# Altium schematic symbol library Schlib1.SchLib: 5 symbols
Pins are listed as number, name and electrical type; pins without a type are passive.

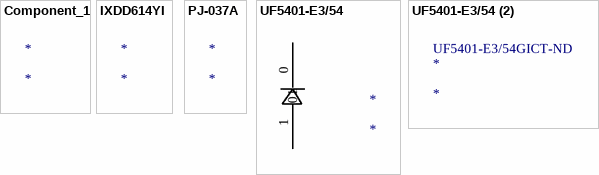
[diagram p0: symbols Component_1 to UF5401-E3/54 (2)]

## Component_1
designator *

## IXDD614YI
designator *
14-Ampere Low-Side Ultrafast MOSFET Driver 5-Lead TO-263; Manufacturer: Ixys Clare; Manufacturer Part Number: IXDD614YI; Number of Drivers: 1; Fall Time: 25ns; Turn-On Delay Time: 70ns; Min Supply Voltage: 4.5V; Rise Time: 35ns; Max Supply Voltage: 35V; Max Output Current: 14A; Interface: On/Off; Output Configuration: Low Side; Supplier 1: Digi-Key; RoHS: Yes; Category: Hot Swap Controllers; Stock 1: 3033; Pricing 1: 1=5.14000, 10=4.61700, 25=4.36440, 100=3.58860, 250=3.22008, 500=3.10368, 1000=2.57993, 2500=2.56200 (USD); Mount: Surface Mount; Case/Package: TO-263; Min Operating Temperature: -40°C; Max Operating Temperature: 125°C; Package Quantity: 50; Number of Outputs: 1; Packaging: Rail/Tube; Propagation Delay: 70ns; Radiation Hardening: No; ComponentLink1URL: https://datasheet.ciiva.com/15110/getdatasheetpartid-347285-15110194.pdf?src-supplier=Verical; ComponentLink1Description: https://datasheet.ciiva.com/15110/getdatasheetpartid-347285-15110194.pdf?src-supplier=Verical; ComponentLink2URL: https://datasheet.ciiva.com/26880/ixdd614yi-26880526.pdf?src-supplier=IIIC; ComponentLink2Description: https://datasheet.ciiva.com/26880/ixdd614yi-26880526.pdf?src-supplier=IIIC; Supplier Part Number 1: CLA338-ND

## PJ-037A
designator *
CONN PWR JACK 2X5.5MM SOLDER; Manufacturer: CUI; Manufacturer Part Number: PJ-037A; Number of Conductors: 2; Voltage Rating: 24V; Insulation Resistance: 100MR; Gender: Male; Shielding: Unshielded; Current Rating: 2.5A; Supplier 1: Digi-Key; RoHS: Yes; Category: Connectors; Stock 1: 7198; Pricing 1: 1=0.58000, 10=0.54300, 25=0.48880, 50=0.43440, 100=0.41630, 250=0.38012, 500=0.36200, 1000=0.29865, 2500=0.27150 (USD); Mount: Through Hole; Housing Material: Thermoplastic; Housing Color: Black; Contact Plating: Nickel; Color: Black; Contact Material: Copper; Min Operating Temperature: -25°C; Max Operating Temperature: 85°C; Termination: Through Hole; Connector Type: Jack; Contact Gender: Male; Orientation: Horizontal; Package Quantity: 500; Flammability Rating: UL94 V-0; Lead Free: Lead Free; ComponentLink1URL: http://www.mouser.com/ds/2/670/pj-037a-516020.pdf?src-supplier=Mouser; ComponentLink1Description: http://www.mouser.com/ds/2/670/pj-037a-516020.pdf?src-supplier=Mouser; ComponentLink2URL: https://www.cui.com/product/resource/digikeypdf/pj-037a.pdf?src-supplier=Digi-Key; ComponentLink2Description: https://www.cui.com/product/resource/digikeypdf/pj-037a.pdf?src-supplier=Digi-Key; ComponentLink3URL: http://www.cui.com/Product/Resource/FuturePDF/PJ-037A.pdf?src-supplier=Future+Electronics; ComponentLink3Description: http://www.cui.com/Product/Resource/FuturePDF/PJ-037A.pdf?src-supplier=Future+Electronics; Supplier Part Number 1: CP-037A-ND

## UF5401-E3/54
designator *
Rectifier Diode, Single, 100 V, 3 A, 1 V, 50 ns, 150 A ;RoHS Compliant: Yes; Manufacturer: Vishay Semiconductors; Manufacturer Part Number: UF5401-E3/54; Max Surge Current: 150A; Recovery Time: 50ns; Max Reverse Current: 10uA; Forward Voltage: 1V; Average Rectified Current: 3A; Max Repetitive Reverse Voltage (Vrrm): 100V; Supplier 1: Digi-Key; RoHS: Yes; Category: Rectifier Diodes; Mount: Through Hole; Case/Package: DO-201AD; Number of Pins: 2; Min Operating Temperature: -55°C; Max Operating Temperature: 150°C; Package Quantity: 1; Packaging: Tape and Reel; Reverse Recovery Time: 50ns; Peak Non-Repetitive Surge Current: 150A; Element Configuration: Single; Max Reverse Voltage (DC): 100V; Reverse Voltage: 100V; Forward Current: 3A; Max Forward Surge Current (Ifsm): 150A; Radiation Hardening: No; RoHS Compliant: Yes; REACH SVHC: Unknown; Lead Free: Lead Free; ComponentLink1URL: https://datasheet.ciiva.com/16502/uf5400-16502336.pdf?src-supplier=Future+Electronics; ComponentLink1Description: https://datasheet.ciiva.com/16502/uf5400-16502336.pdf?src-supplier=Future+Electronics; Supplier Part Number 1: UF5401-E3/54GICT-ND
pins: 0, 1

## UF5401-E3/54 (2)
designator *  Supplier Part Number 1: UF5401-E3/54GICT-ND
Rectifier Diode, Single, 100 V, 3 A, 1 V, 50 ns, 150 A ;RoHS Compliant: Yes; Manufacturer: Vishay Semiconductors; Manufacturer Part Number: UF5401-E3/54; Max Surge Current: 150A; Recovery Time: 50ns; Max Reverse Current: 10uA; Forward Voltage: 1V; Average Rectified Current: 3A; Max Repetitive Reverse Voltage (Vrrm): 100V; Supplier 1: Digi-Key; RoHS: Yes; Category: Rectifier Diodes; Mount: Through Hole; Case/Package: DO-201AD; Number of Pins: 2; Min Operating Temperature: -55°C; Max Operating Temperature: 150°C; Package Quantity: 1; Packaging: Tape and Reel; Reverse Recovery Time: 50ns; Peak Non-Repetitive Surge Current: 150A; Element Configuration: Single; Max Reverse Voltage (DC): 100V; Reverse Voltage: 100V; Forward Current: 3A; Max Forward Surge Current (Ifsm): 150A; Radiation Hardening: No; RoHS Compliant: Yes; REACH SVHC: Unknown; Lead Free: Lead Free; ComponentLink1URL: https://datasheet.ciiva.com/16502/uf5400-16502336.pdf?src-supplier=Future+Electronics; ComponentLink1Description: https://datasheet.ciiva.com/16502/uf5400-16502336.pdf?src-supplier=Future+Electronics